# Altium integrated library XPT2046.IntLib: 1 symbol
Pins are listed as number, name and electrical type; pins without a type are passive.

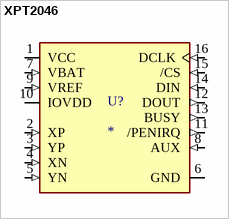
[diagram p0: symbol XPT2046]

## XPT2046
designator U?
RASPBERRY PI 3.5 TFT DISPLAY; MP: XPT2046; MF: Xptek; Price: None; Package: Package; Check_prices: https://www.snapeda.com/parts/XPT2046/Xptek/view-part/5164510/?ref=eda; Value: *; Availability: No availability data; SnapEDA_Link: https://www.snapeda.com/parts/XPT2046/Xptek/view-part/5164510/?ref=snap
footprint TSSOP-16
pins: 1 VCC (power), 2 XP (in), 3 YP (in), 4 XN (in), 5 YN (in), 6 GND (power), 7 VBAT (in), 8 AUX (in), 9 VREF (in), 10 IOVDD (power), 11 /PENIRQ (out), 12 DOUT (out), 13 BUSY (out), 14 DIN (in), 15 /CS (in), 16 DCLK (in)